# Altium integrated library thuvien.IntLib: 20 symbols
Pins are listed as number, name and electrical type; pins without a type are passive.

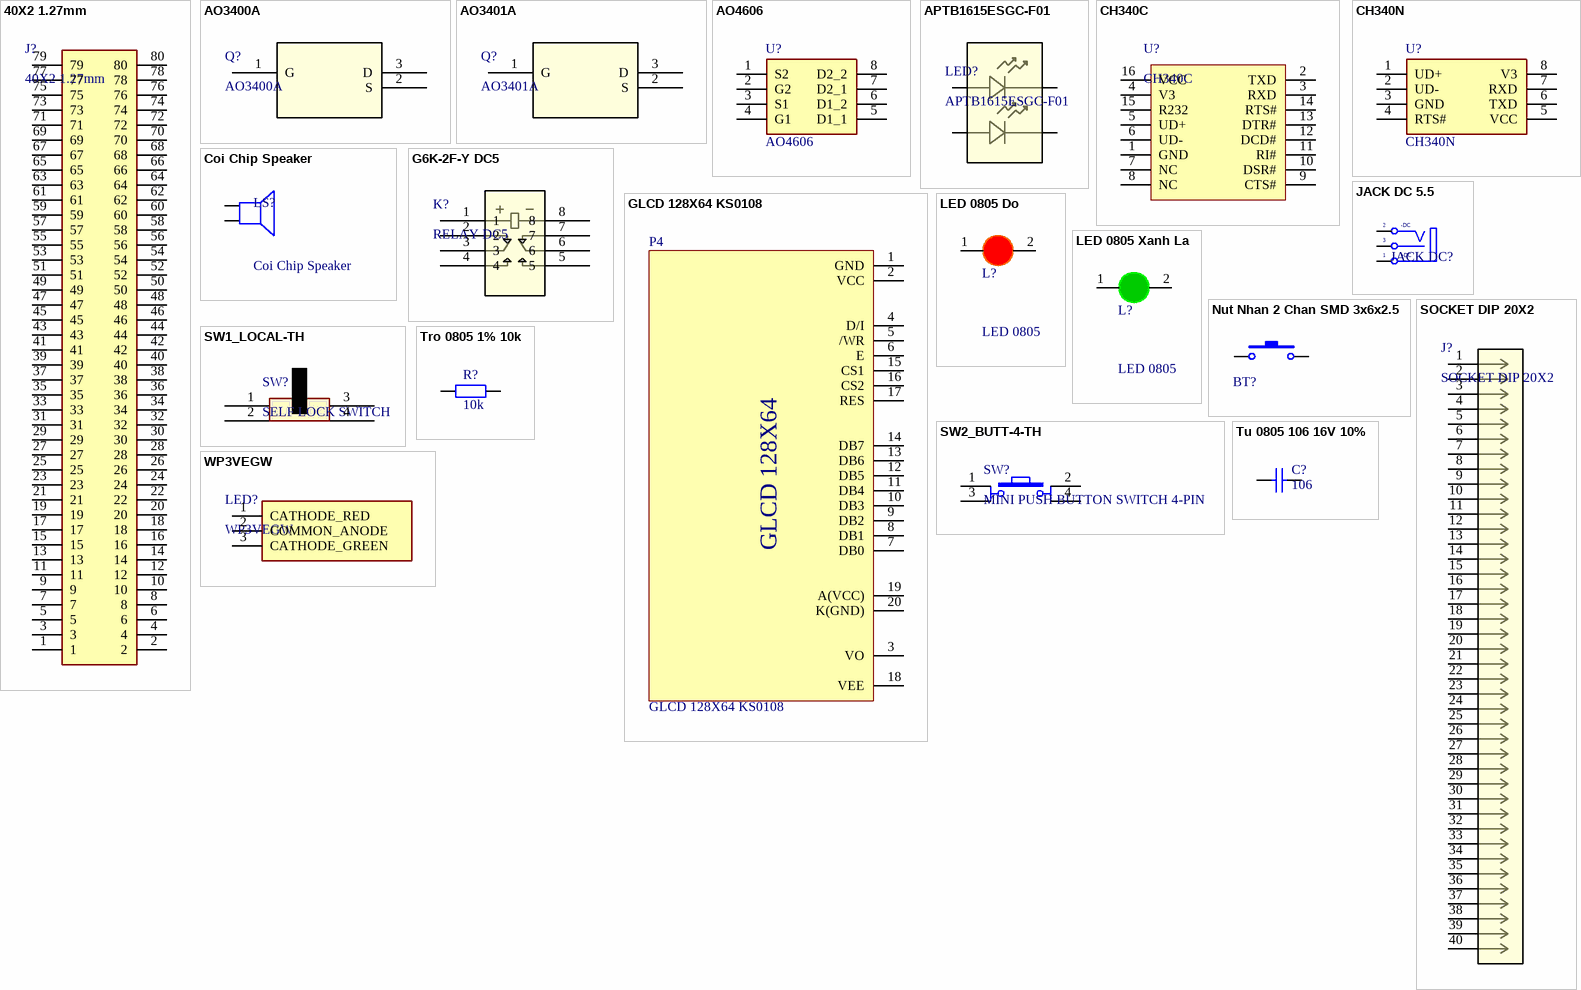
[diagram p0: symbols 40X2 1.27mm to WP3VEGW]

## 40X2 1.27mm
designator J?
Connector; Manufacturer_Name: SAMTEC; Manufacturer_Part_Number: CLP-140-02-G-D-A; Datasheet Link: http://suddendocs.samtec.com/prints/erm8-xxx-xx.x-xxx-dv-xxxx-xx-mkt.pdf; Height: 2.37mm
footprint CLP-140-02-XXX-D-A
pins: 1, 2, 3, 4, 5, 6, 7, 8, 9, 10, 11, 12, 13, 14, 15, 16, 17, 18, 19, 20, 21, 22, 23, 24, 25, 26, 27, 28, 29, 30, 31, 32, 33, 34, 35, 36, 37, 38, 39, 40, 41, 42, 43, 44, 45, 46, 47, 48, 49, 50, 51, 52, 53, 54, 55, 56, 57, 58, 59, 60, 61, 62, 63, 64, 65, 66, 67, 68, 69, 70, 71, 72, 73, 74, 75, 76, 77, 78, 79, 80

## AO3400A
designator Q?
N-MOSFET; Mfr_Name: Alpha and Omega Semiconductor; Type: DEV; Copyright: Copyright (C) 2023 Ultra Librarian. All rights reserved.; Manufacturer_Part_Number: AO3400A; RefDes: RefDes
footprint SOT-23-3L_AOS
pins: 1 G, 2 S, 3 D

## AO3401A
designator Q?
P-MOSFET; Mfr_Name: Alpha and Omega Semiconductor; Type: DEV; Copyright: Copyright (C) 2023 Ultra Librarian. All rights reserved.; Manufacturer_Part_Number: AO3401A; RefDes: RefDes
footprint SOT-23-3L_AOS
pins: 1 G, 2 S, 3 D

## AO4606
designator U?
SMALL SIGNAL FIELD-EFFECT TRANSISTOR, 6A I(D), 30V, 2-ELEMENT, N-CHANNEL AND P-CHANNEL, SILICON, METAL-OXIDE SEMICONDUCTOR FET; Manufacturer_Name: Alpha & Omega Semiconductors; Geometry.Height: 1.75mm; Manufacturer_Part_Number: AO4606; Mouser Part Number: *; Mouser Price/Stock: *; Arrow Part Number: AO4606; Arrow Price/Stock: https://www.arrow.com/en/products/ao4606/alpha-and-omega-semiconductor?region=nac; Datasheet Link: https://datasheet.datasheetarchive.com/originals/distributors/Datasheets-AOS/DSAAOS100079.pdf
footprint SOIC127P600X175-8N
pins: 1 S2, 2 G2, 3 S1, 4 G1, 5 D1_1, 6 D1_2, 7 D2_1, 8 D2_2

## APTB1615ESGC-F01
designator LED?
LED RED/GREEN; Mfr_Name: Kingbright; Type: DEV; Copyright: Copyright (C) 2023 Ultra Librarian. All rights reserved.; Manufacturer_Part_Number: APTB1615ESGC-F01; RefDes: RefDes
footprint APTB1615ESGC-F01_KNB
pins: 1, 2, 3, 4

## CH340C
designator U?
USB Bridge, USB to UART USB 2.0 UART Interface; Manufacturer: Olimex; Alternate Part Number-1: NA; Manufacturer Part Number: CH340C; Case/Package: SOIC16; Supplier-1: LCSC; Supplier Part Number-1: C84681
footprint SOIC16_50_284_25X90_SMT
pins: 1 GND, 2 TXD, 3 RXD, 4 V3, 5 UD+, 6 UD-, 7 NC, 8 NC, 9 CTS#, 10 DSR#, 11 RI#, 12 DCD#, 13 DTR#, 14 RTS#, 15 R232, 16 VCC

## CH340N
designator U?
USB to TTL; Manufacturer_Name: Alpha & Omega Semiconductors; Manufacturer_Part_Number: AO4606; Geometry.Height: 1.75mm; Mouser Part Number: *; Mouser Price/Stock: *; Arrow Part Number: AO4606; Arrow Price/Stock: https://www.arrow.com/en/products/ao4606/alpha-and-omega-semiconductor?region=nac; Datasheet Link: https://datasheet.datasheetarchive.com/originals/distributors/Datasheets-AOS/DSAAOS100079.pdf
footprint SOIC127P600X175-8N
pins: 1 UD+, 2 UD-, 3 GND, 4 RTS#, 5 VCC, 6 TXD, 7 RXD, 8 V3

## Coi Chip Speaker
designator LS?
Còi chip
footprint Coi Chip Speacker
pins: 1, 2

## G6K-2F-Y DC5
designator K?, comment RELAY DC5
RELAY MINI; Mfr_Name: Omron; Manufacturer_Part_Number: G6K-2F-Y DC5; Copyright: Copyright (C) 2023 Ultra Librarian. All rights reserved.; RefDes: RefDes; Type: DEV
footprint G6K-2F-Y DC3_OMR
pins: 1, 2, 3, 4, 5, 6, 7, 8

## GLCD 128X64 KS0108
designator P4
GLCD LOAI 21 PIN; LatestRevisionDate: 17-Jul-2002; LatestRevisionNote: Re-released for DXP Platform.; Publisher: Altium Limited
footprint LCD128x64 (Footprint not found)
pins: 1 GND, 2 VCC, 3 VO, 4 D/I, 5 /WR, 6 E, 7 DB0, 8 DB1, 9 DB2, 10 DB3, 11 DB4, 12 DB5, 13 DB6, 14 DB7, 15 CS1, 16 CS2, 17 RES, 18 VEE, 19 A(VCC), 20 K(GND)
2 alternate drawings of the same symbol
text: GLCD 128X64

## JACK DC 5.5
designator JACK DC?
JACK DC 5.5; Value: Jac DC
footprint JACK DC 5.5 (Jac DC input)
pins: 1 T "Tip", 2 TN "Tip Normal (Break Contact)", 3 S (power) "Sleeve (Ground)"
text: -DC; +DC

## LED 0805 Do
designator L?, comment LED 0805
Dán; Don_Vi: Con; Ma_Hang: MH000897; Ten_Linh_Kien: LED 0805 Màu Đỏ (Red); Ghi_Chu: *; Kieu_Chan: *; Chung_Loai: Dán
footprint LED-0805-Red
pins: 1 A, 2 K

## LED 0805 Xanh La
designator L?, comment LED 0805
Dán; Don_Vi: Con; Ma_Hang: MH002326; Ten_Linh_Kien: LED 0805 Màu Xanh Lá (Green); Ghi_Chu: *; Kieu_Chan: *; Chung_Loai: Dán
footprint LED-0805-Green
pins: 1 A, 2 K

## Nut Nhan 2 Chan SMD 3x6x2.5
designator BT?
Nut Nhan 2 Chan SMD 3x6x2.5; Ma_Hang: MH001036; Ten: Nút Nhấn 2 Chân 3x6x2.5MM SMD
footprint Nut Nhan 2 Chan SMD 3x6x2.5 (Footprint not found)
pins: 1, 2

## SOCKET DIP 20X2
designator J?
Mfr_Name: Aries; Manufacturer_Part_Number: 40-6554-10; Type: DEV; Copyright: Copyright (C) 2023 Ultra Librarian. All rights reserved.; RefDes: RefDes
footprint CONN40_40-6554_ARS
pins: 1, 2, 3, 4, 5, 6, 7, 8, 9, 10, 11, 12, 13, 14, 15, 16, 17, 18, 19, 20, 21, 22, 23, 24, 25, 26, 27, 28, 29, 30, 31, 32, 33, 34, 35, 36, 37, 38, 39, 40

## SW1_LOCAL-TH
designator SW?, comment SELF LOCK SWITCH
6 Pin DPDT Mini Push Button Self-locking Switch Multimeter Switch; Manufacturer Part Number: NA; Case/Package: TH; Manufacturer: NA; Supplier-1: SP ROAD; Supplier Part Number-1: NA; Alternate Part Number-1: NA
footprint SW_70_31.5D47_TH_ST
pins: 1, 2, 3, 4

## SW2_BUTT-4-TH
designator SW?, comment MINI PUSH BUTTON SWITCH 4-PIN
Tactile Switches MINI PUSH BUTTON SWITCH 4-PIN QTY. 4; Manufacturer: Gravitech; Manufacturer Part Number: BUTT-4; Alternate Part Number-1: NA; Case/Package: TH; Supplier-1: SP ROAD; Supplier Part Number-1: BUTT-4
footprint SW_70_31.5D47_TH_ST
pins: 1, 2, 3, 4

## Tro 0805 1% 10k
designator R?, comment 10k
Dán; Don_Vi: Con; So_Chan: 2; Ten_Linh_Kien: Trở 0805 1% 10k; Ma_Hang: MH005473; Chung_Loai: Dán; Kieu_Chan: *
footprint tro smd 0805
pins: 1, 2

## Tu 0805 106 16V 10%
designator C?, comment 106
Dán; Ten_Linh_Kien: Tụ 0805 106-10uF 10% 16V; So_Chan: 2; Don_Vi: Con; Ma_Hang: MH004553; Chung_Loai: Dán; Kieu_Chan: *
footprint tu 0805 (Compoment SMD 80x50mil)
pins: 1, 2

## WP3VEGW
designator LED?
LED RED/GREEN 3mm; Manufacturer_Name: Kingbright; Description: Standard LEDs - Through Hole Red/Green Diffused 625/568nm 40/35mcd; Datasheet Link: https://www.mouser.com/datasheet/2/216/WP3VEGW-47873.pdf; Height: 6.93mm; Manufacturer_Part_Number: WP3VEGW; Mouser Part Number: 604-WP3VEGW; Mouser Price/Stock: https://www.mouser.co.uk/ProductDetail/Kingbright/WP3VEGW?qs=58z0TXQGVSS6OtgxGPtI4A%3D%3D; Arrow Part Number: WP3VEGW; Arrow Price/Stock: https://www.arrow.com/en/products/wp3vegw/kingbright?region=nac
footprint WP3VEGW
pins: 1 CATHODE_RED, 2 COMMON_ANODE, 3 CATHODE_GREEN